# Altium footprint library VHIEU_Passive.PcbLib: 6 footprints
Each footprint in its own frame and in the unit in brackets; x right, y up, seen from the top. Pads: shape width x height; smd on the part's side, far side on the other; paste and mask are expansions set on the pad; w line width, h text height; cw(c..) or ccw(c..) is an arc to the next point about the centre after c.
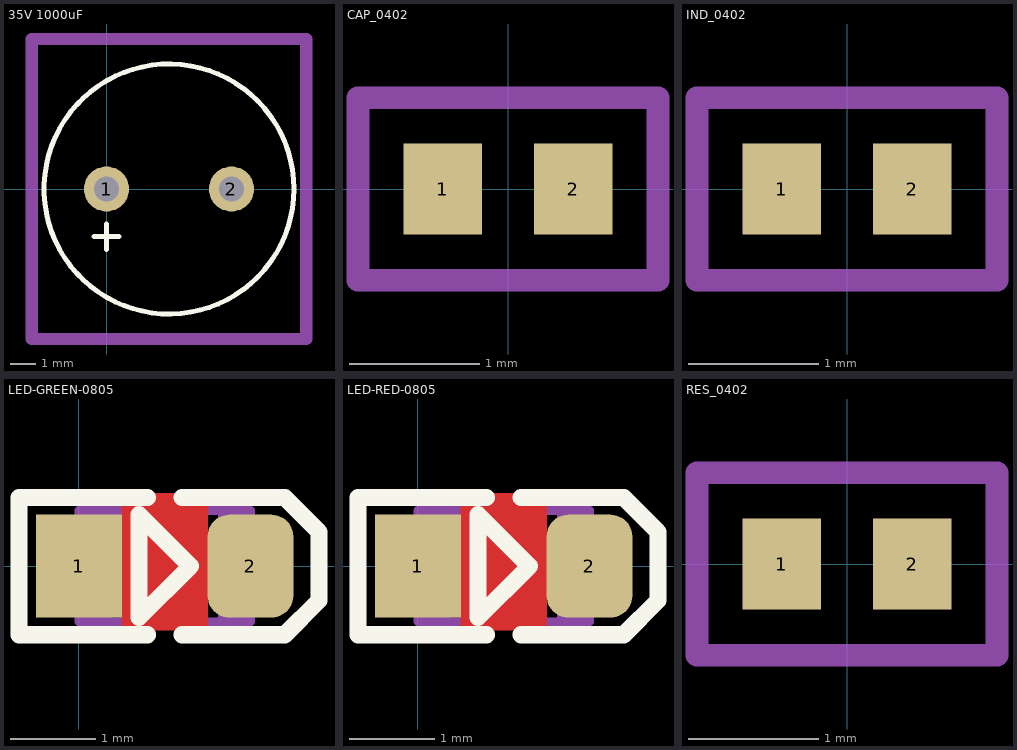
[diagram p0: the footprints below, top view; thin cyan lines are the x and y axes]

## 35V 1000uF [mm]
pads (2):
  round 1.8 hole 1: 1(0,0) 2(5,0)
Top Overlay:
  circle w0.2: c2.5,0 r5
  lines w0.2: -0.508,-1.905 0.508,-1.905 ; 0,-2.413 0,-1.397
Mechanical 1:
  lines w0.5: -3,-6 -3,6 8,6 8,-6 -3,-6
  text "'.Designator'" at -2.199,-0.35 h1.52
3D body "User Library-Cap-EL(10x20-5).STEP": height 20, standoff -3.3, extent -2.5,-4.989 7.502,4.99

## CAP_0402 [mm]
pads (2):
  rect 0.6x0.7 smd: 1(-0.5,0) 2(0.5,0)
Mechanical 13:
  lines w0.175: -1.15,-0.7 1.15,-0.7 1.15,0.7 -1.15,0.7 -1.15,-0.7
  text "'.Designator'" at -3.949,-0.338 h1.5
3D body "C0402.step": height 0.37, standoff 0.01, extent -0.5,-0.265 0.5,0.265

## IND_0402 [mm]
pads (2):
  rect 0.6x0.7 smd: 1(-0.5,0) 2(0.5,0)
Mechanical 13:
  lines w0.175: -1.15,-0.7 -1.15,0.7 1.15,0.7 1.15,-0.7 -1.15,-0.7
  text "'.Designator'" at 3.849,0.338 h1.5
3D body "L0402.step": height 0.67, standoff 0.01, extent -0.56,-0.256 0.56,0.256

## LED-GREEN-0805 [mm] "GREEN"
pads (2):
  rect 1x1.2 smd mask+0.075: 1(0,0)
  rrect50% 1x1.2 smd mask+0.075: 2(2,0)
Top Layer:
  pour cut-out: 0.5,0.85 1.5,0.85 1.5,-0.75 0.5,-0.75
Top Overlay:
  lines w0.2: 0.8,-0.8 -0.7,-0.8 -0.7,0.8 0.8,0.8 ; 1.2,-0.8 2.4,-0.8 2.8,-0.4 2.8,0.4 2.4,0.8 1.2,0.8 ; 0.7,-0.6 1.3,0 0.7,0.6 0.7,-0.6
Mechanical 1:
  text "'.Designator'" at 0.254,0.762 h1.52
Mechanical 13:
  region: 1.995,-0.192 1.842,-0.192 1.842,-0.651 1.995,-0.651
  region: 1.995,0.649 1.842,0.649 1.842,0.189 1.995,0.189
  region: 1.848,0.65 1.619,0.65 1.619,-0.65 1.848,-0.65
  rectangle: 0.005,-0.649 0.158,-0.189
  rectangle: 0.005,0.192 0.158,0.651
  rectangle: 0.152,-0.65 0.381,0.65
  lines w0.102: 0.695,0.356 0.924,0.025 0.67,0 0.924,-0.33 ; 1.102,0.356 1.33,0.025 1.076,0 1.33,-0.33 ; 0.924,-0.33 0.771,-0.279 0.924,-0.178 0.924,-0.33 ; 1.33,-0.33 1.178,-0.279 1.33,-0.178 1.33,-0.33 ; 0,-0.65 0,-0.191 ccw(c0,0) 0,0.191 0,0.65 2,0.65 2,0.191 ccw(c2,0) 2,-0.191 2,-0.65 0,-0.65
3D body "User Library-Wurth Elektronik WL-SMCW 0805 (2012) LED Base (Separate Lens).step": height 0.64, standoff 0, extent 0,-0.625 2,0.625
3D body "User Library-Wurth Elektronik WL-SMCW 0805 (2012) LED Lens (Separate Body).step": height 0.7, standoff 0.3, extent 0.3,-0.625 1.7,0.625

## LED-RED-0805 [mm]
pads (2):
  rect 1x1.2 smd mask+0.075: 1(0,0)
  rrect50% 1x1.2 smd mask+0.075: 2(2,0)
Top Layer:
  pour cut-out: 0.5,0.85 1.5,0.85 1.5,-0.75 0.5,-0.75
Top Overlay:
  lines w0.2: 0.8,-0.8 -0.7,-0.8 -0.7,0.8 0.8,0.8 ; 1.2,-0.8 2.4,-0.8 2.8,-0.4 2.8,0.4 2.4,0.8 1.2,0.8 ; 0.7,-0.6 0.7,0.6 1.3,0 0.7,-0.6
Mechanical 1:
  text "'.Designator'" at 0.254,0.762 h1.52
Mechanical 13:
  rectangle: 0.152,-0.65 0.381,0.65
  rectangle: 0.005,0.192 0.158,0.651
  rectangle: 0.005,-0.649 0.158,-0.189
  region: 1.848,0.65 1.619,0.65 1.619,-0.65 1.848,-0.65
  region: 1.995,0.649 1.842,0.649 1.842,0.189 1.995,0.189
  region: 1.995,-0.192 1.842,-0.192 1.842,-0.651 1.995,-0.651
  lines w0.102: 0.695,0.356 0.924,0.025 0.67,0 0.924,-0.33 ; 1.102,0.356 1.33,0.025 1.076,0 1.33,-0.33 ; 0.924,-0.33 0.924,-0.178 0.771,-0.279 0.924,-0.33 ; 1.33,-0.33 1.33,-0.178 1.178,-0.279 1.33,-0.33 ; 0,-0.65 2,-0.65 2,-0.19 cw(c2,0) 2,0.191 2,0.65 0,0.65 0,0.191 cw(c0,0) 0,-0.191 0,-0.65
3D body "User Library-Wurth Elektronik WL-SMCW 0805 (2012) LED Lens (Separate Body).step": height 0.7, standoff 0.3, extent 0.3,-0.625 1.7,0.625
3D body "User Library-Wurth Elektronik WL-SMCW 0805 (2012) LED Base (Separate Lens).step": height 0.64, standoff 0, extent 0,-0.625 2,0.625

## RES_0402 [mm]
pads (2):
  rect 0.6x0.7 smd: 1(-0.5,0) 2(0.5,0)
Mechanical 13:
  lines w0.175: -1.15,-0.7 -1.15,0.7 1.15,0.7 1.15,-0.7 -1.15,-0.7
  text "'.Designator'" at -1.409,-0.338 h1.5
3D body "R0402.step": height 0.3, standoff 0, extent -0.5,-0.25 0.5,0.25